# Altium footprint library NRF21540-QDAA-R.PcbLib: 3 footprints
Each footprint in its own frame and in the unit in brackets; x right, y up, seen from the top. Pads: shape width x height; smd on the part's side, far side on the other; paste and mask are expansions set on the pad; w line width, h text height; cw(c..) or ccw(c..) is an arc to the next point about the centre after c.
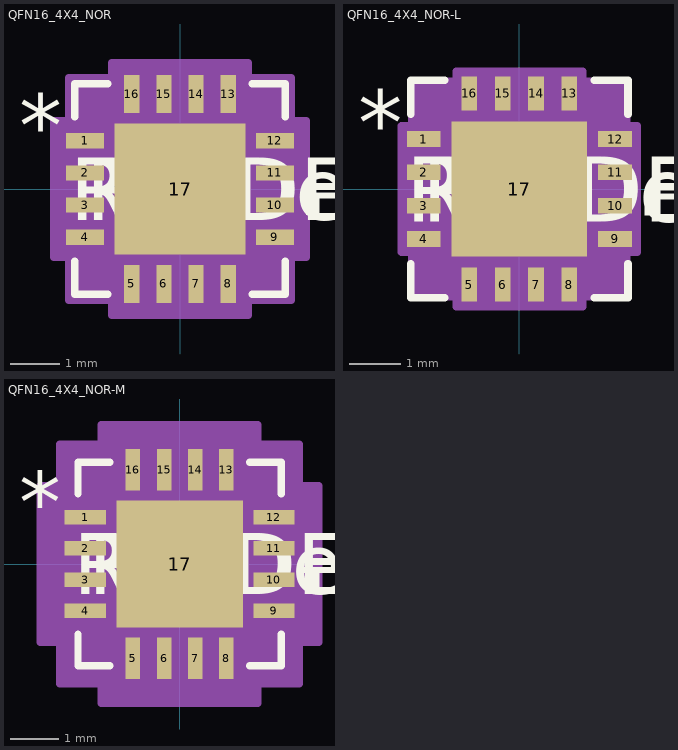
[diagram p0: the footprints below, top view; thin cyan lines are the x and y axes]

## QFN16_4X4_NOR [mil]
pads (17):
  rect 30x12 smd paste+0 mask+0: 1(-75.5,38.39) 2(-75.5,12.8) 3(-75.5,-12.8) 4(-75.5,-38.39) 9(75.5,-38.39) 10(75.5,-12.8) 11(75.5,12.8) 12(75.5,38.39)
  rect 12x30 smd paste+0 mask+0: 5(-38.39,-75.5) 6(-12.8,-75.5) 7(12.8,-75.5) 8(38.39,-75.5) 13(38.39,75.5) 14(12.8,75.5) 15(-12.8,75.5) 16(-38.39,75.5)
  rect 104x104 smd paste-52 mask+0: 17(0,0)
Top Overlay:
  region: 100.5,-5.3 110.5,-5.3 110.5,-20.3 100.5,-20.3
  lines w6: -83.5,-57.49 -83.5,-83.5 -57.49,-83.5 ; -83.5,57.49 -83.5,83.5 -57.49,83.5 ; 57.49,-83.5 83.5,-83.5 83.5,-57.49 ; 57.49,83.5 83.5,83.5 83.5,57.49
  text "*" at -128,26.18 h50
  text "RefDes" at -75,-25 h50
  text "REFDES" at -87.5,-25 h50
Top Paste:
  region: -3.94,48.06 -48.06,48.06 -48.06,3.94 -3.94,3.94
  region: -3.94,-3.94 -48.06,-3.94 -48.06,-48.06 -3.94,-48.06
  region: 48.06,48.06 3.94,48.06 3.94,3.94 48.06,3.94
  region: 48.06,-3.94 3.94,-3.94 3.94,-48.06 48.06,-48.06
Mechanical 13:
  lines w1: -78.5,28.5 -28.5,78.5 ; -78.5,-78.5 78.5,-78.5 ; -78.5,-78.5 -78.5,78.5 ; -78.5,-78.5 -78.5,-78.5 ; -78.5,-45.39 -78.5,-31.39 ; -78.5,-45.39 -78.5,-31.39 ; -78.5,-45.39 -78.5,-45.39 ; -78.5,-31.39 -78.5,-31.39 ; -78.5,-19.8 -78.5,-5.8 ; -78.5,-19.8 -78.5,-5.8 ; -78.5,-19.8 -78.5,-19.8 ; -78.5,-5.8 -78.5,-5.8 ; -78.5,5.8 -78.5,19.8 ; -78.5,5.8 -78.5,19.8 ; -78.5,5.8 -78.5,5.8 ; -78.5,19.8 -78.5,19.8 ; -78.5,31.39 -78.5,45.39 ; -78.5,31.39 -78.5,45.39 ; -78.5,31.39 -78.5,31.39 ; -78.5,45.39 -78.5,45.39 ; -78.5,78.5 78.5,78.5 ; -78.5,78.5 -78.5,78.5 ; -45.39,-78.5 -31.39,-78.5 ; -45.39,-78.5 -45.39,-78.5 ; -45.39,-78.5 -31.39,-78.5 ; -45.39,78.5 -31.39,78.5 ; -45.39,78.5 -31.39,78.5 ; -45.39,78.5 -45.39,78.5 ; -31.39,-78.5 -31.39,-78.5 ; -31.39,78.5 -31.39,78.5 ; -19.8,-78.5 -5.8,-78.5 ; -19.8,-78.5 -19.8,-78.5 ; -19.8,-78.5 -5.8,-78.5 ; -19.8,78.5 -5.8,78.5 ; -19.8,78.5 -5.8,78.5 ; -19.8,78.5 -19.8,78.5 ; -5.8,-78.5 -5.8,-78.5 ; -5.8,78.5 -5.8,78.5 ; 5.8,-78.5 19.8,-78.5 ; 5.8,-78.5 5.8,-78.5 ; 5.8,-78.5 19.8,-78.5 ; 5.8,78.5 19.8,78.5 ; 5.8,78.5 19.8,78.5 ; 5.8,78.5 5.8,78.5 ; 19.8,-78.5 19.8,-78.5 ; 19.8,78.5 19.8,78.5 ; 31.39,-78.5 45.39,-78.5 ; 31.39,-78.5 31.39,-78.5 ; 31.39,-78.5 45.39,-78.5 ; 31.39,78.5 45.39,78.5 ; 31.39,78.5 45.39,78.5 ; 31.39,78.5 31.39,78.5 ; 45.39,-78.5 45.39,-78.5 ; 45.39,78.5 45.39,78.5 ; 78.5,-78.5 78.5,-78.5 ; 78.5,-78.5 78.5,78.5 ; 78.5,-45.39 78.5,-31.39 ; 78.5,-45.39 78.5,-45.39 ; 78.5,-45.39 78.5,-31.39 ; 78.5,-31.39 78.5,-31.39 ; 78.5,-19.8 78.5,-5.8 ; 78.5,-19.8 78.5,-19.8 ; 78.5,-19.8 78.5,-5.8 ; 78.5,-5.8 78.5,-5.8 ; 78.5,5.8 78.5,19.8 ; 78.5,5.8 78.5,5.8 ; 78.5,5.8 78.5,19.8 ; 78.5,19.8 78.5,19.8 ; 78.5,31.39 78.5,45.39 ; 78.5,31.39 78.5,31.39 ; 78.5,31.39 78.5,45.39 ; 78.5,45.39 78.5,45.39 ; 78.5,78.5 78.5,78.5
  text "*" at -73,26.18 h50
  text "RefDes2" at -87.5,-25 h50
Mechanical 15:
  region: -54.39,-88.5 -88.5,-88.5 -88.5,-54.39 -100.5,-54.39 -100.5,54.39 -88.5,54.39 -88.5,88.5 -54.39,88.5 -54.39,100.5 54.39,100.5 54.39,88.5 88.5,88.5 88.5,54.39 100.5,54.39 100.5,-54.39 88.5,-54.39 88.5,-88.5 54.39,-88.5 54.39,-100.5 -54.39,-100.5
  lines w6: -100.5,-54.39 -88.5,-54.39 -88.5,-88.5 -54.39,-88.5 -54.39,-100.5 54.39,-100.5 54.39,-88.5 88.5,-88.5 88.5,-54.39 100.5,-54.39 100.5,54.39 88.5,54.39 88.5,88.5 54.39,88.5 54.39,100.5 -54.39,100.5 -54.39,88.5 -88.5,88.5 -88.5,54.39 -100.5,54.39 -100.5,-54.39
3D body "QFN16_4X4_NOR.step": height 35.12, standoff 0, extent -78.5,-78.5 78.5,78.5

## QFN16_4X4_NOR-L [mil]
pads (17):
  rect 26x12 smd paste+0 mask+0: 1(-73.5,38.39) 2(-73.5,12.8) 3(-73.5,-12.8) 4(-73.5,-38.39) 9(73.5,-38.39) 10(73.5,-12.8) 11(73.5,12.8) 12(73.5,38.39)
  rect 12x26 smd paste+0 mask+0: 5(-38.39,-73.5) 6(-12.8,-73.5) 7(12.8,-73.5) 8(38.39,-73.5) 13(38.39,73.5) 14(12.8,73.5) 15(-12.8,73.5) 16(-38.39,73.5)
  rect 104x104 smd paste-52 mask+0: 17(0,0)
Top Overlay:
  region: 96.5,-5.3 106.5,-5.3 106.5,-20.3 96.5,-20.3
  lines w6: -83.5,-57.49 -83.5,-83.5 -57.49,-83.5 ; -83.5,57.49 -83.5,83.5 -57.49,83.5 ; 57.49,-83.5 83.5,-83.5 83.5,-57.49 ; 57.49,83.5 83.5,83.5 83.5,57.49
  text "*" at -124,26.18 h50
  text "RefDes" at -75,-25 h50
  text "REFDES" at -87.5,-25 h50
Top Paste:
  region: -3.94,48.06 -48.06,48.06 -48.06,3.94 -3.94,3.94
  region: -3.94,-3.94 -48.06,-3.94 -48.06,-48.06 -3.94,-48.06
  region: 48.06,48.06 3.94,48.06 3.94,3.94 48.06,3.94
  region: 48.06,-3.94 3.94,-3.94 3.94,-48.06 48.06,-48.06
Mechanical 13:
  lines w1: -78.5,28.5 -28.5,78.5 ; -78.5,-78.5 78.5,-78.5 ; -78.5,-78.5 -78.5,78.5 ; -78.5,-78.5 -78.5,-78.5 ; -78.5,-45.39 -78.5,-31.39 ; -78.5,-45.39 -78.5,-31.39 ; -78.5,-45.39 -78.5,-45.39 ; -78.5,-31.39 -78.5,-31.39 ; -78.5,-19.8 -78.5,-5.8 ; -78.5,-19.8 -78.5,-5.8 ; -78.5,-19.8 -78.5,-19.8 ; -78.5,-5.8 -78.5,-5.8 ; -78.5,5.8 -78.5,19.8 ; -78.5,5.8 -78.5,19.8 ; -78.5,5.8 -78.5,5.8 ; -78.5,19.8 -78.5,19.8 ; -78.5,31.39 -78.5,45.39 ; -78.5,31.39 -78.5,45.39 ; -78.5,31.39 -78.5,31.39 ; -78.5,45.39 -78.5,45.39 ; -78.5,78.5 78.5,78.5 ; -78.5,78.5 -78.5,78.5 ; -45.39,-78.5 -31.39,-78.5 ; -45.39,-78.5 -45.39,-78.5 ; -45.39,-78.5 -31.39,-78.5 ; -45.39,78.5 -31.39,78.5 ; -45.39,78.5 -31.39,78.5 ; -45.39,78.5 -45.39,78.5 ; -31.39,-78.5 -31.39,-78.5 ; -31.39,78.5 -31.39,78.5 ; -19.8,-78.5 -5.8,-78.5 ; -19.8,-78.5 -19.8,-78.5 ; -19.8,-78.5 -5.8,-78.5 ; -19.8,78.5 -5.8,78.5 ; -19.8,78.5 -5.8,78.5 ; -19.8,78.5 -19.8,78.5 ; -5.8,-78.5 -5.8,-78.5 ; -5.8,78.5 -5.8,78.5 ; 5.8,-78.5 19.8,-78.5 ; 5.8,-78.5 5.8,-78.5 ; 5.8,-78.5 19.8,-78.5 ; 5.8,78.5 19.8,78.5 ; 5.8,78.5 19.8,78.5 ; 5.8,78.5 5.8,78.5 ; 19.8,-78.5 19.8,-78.5 ; 19.8,78.5 19.8,78.5 ; 31.39,-78.5 45.39,-78.5 ; 31.39,-78.5 31.39,-78.5 ; 31.39,-78.5 45.39,-78.5 ; 31.39,78.5 45.39,78.5 ; 31.39,78.5 45.39,78.5 ; 31.39,78.5 31.39,78.5 ; 45.39,-78.5 45.39,-78.5 ; 45.39,78.5 45.39,78.5 ; 78.5,-78.5 78.5,-78.5 ; 78.5,-78.5 78.5,78.5 ; 78.5,-45.39 78.5,-31.39 ; 78.5,-45.39 78.5,-45.39 ; 78.5,-45.39 78.5,-31.39 ; 78.5,-31.39 78.5,-31.39 ; 78.5,-19.8 78.5,-5.8 ; 78.5,-19.8 78.5,-19.8 ; 78.5,-19.8 78.5,-5.8 ; 78.5,-5.8 78.5,-5.8 ; 78.5,5.8 78.5,19.8 ; 78.5,5.8 78.5,5.8 ; 78.5,5.8 78.5,19.8 ; 78.5,19.8 78.5,19.8 ; 78.5,31.39 78.5,45.39 ; 78.5,31.39 78.5,31.39 ; 78.5,31.39 78.5,45.39 ; 78.5,45.39 78.5,45.39 ; 78.5,78.5 78.5,78.5
  text "*" at -73,26.18 h50
  text "RefDes2" at -87.5,-25 h50
Mechanical 15:
  region: -48.39,-82.5 -82.5,-82.5 -82.5,-48.39 -90.5,-48.39 -90.5,48.39 -82.5,48.39 -82.5,82.5 -48.39,82.5 -48.39,90.5 48.39,90.5 48.39,82.5 82.5,82.5 82.5,48.39 90.5,48.39 90.5,-48.39 82.5,-48.39 82.5,-82.5 48.39,-82.5 48.39,-90.5 -48.39,-90.5
  lines w6: -90.5,-48.39 -82.5,-48.39 -82.5,-82.5 -48.39,-82.5 -48.39,-90.5 48.39,-90.5 48.39,-82.5 82.5,-82.5 82.5,-48.39 90.5,-48.39 90.5,48.39 82.5,48.39 82.5,82.5 48.39,82.5 48.39,90.5 -48.39,90.5 -48.39,82.5 -82.5,82.5 -82.5,48.39 -90.5,48.39 -90.5,-48.39
3D body "QFN16_4X4_NOR.step": height 35.12, standoff 0, extent -78.5,-78.5 78.5,78.5

## QFN16_4X4_NOR-M [mil]
pads (17):
  rect 34x12 smd paste+0 mask+0: 1(-77.5,38.39) 2(-77.5,12.8) 3(-77.5,-12.8) 4(-77.5,-38.39) 9(77.5,-38.39) 10(77.5,-12.8) 11(77.5,12.8) 12(77.5,38.39)
  rect 12x34 smd paste+0 mask+0: 5(-38.39,-77.5) 6(-12.8,-77.5) 7(12.8,-77.5) 8(38.39,-77.5) 13(38.39,77.5) 14(12.8,77.5) 15(-12.8,77.5) 16(-38.39,77.5)
  rect 104x104 smd paste-52 mask+0: 17(0,0)
Top Overlay:
  region: 104.5,-5.3 114.5,-5.3 114.5,-20.3 104.5,-20.3
  lines w6: -83.5,-57.49 -83.5,-83.5 -57.49,-83.5 ; -83.5,57.49 -83.5,83.5 -57.49,83.5 ; 57.49,-83.5 83.5,-83.5 83.5,-57.49 ; 57.49,83.5 83.5,83.5 83.5,57.49
  text "*" at -132,26.18 h50
  text "RefDes" at -75,-25 h50
  text "REFDES" at -87.5,-25 h50
Top Paste:
  region: -3.94,48.06 -48.06,48.06 -48.06,3.94 -3.94,3.94
  region: -3.94,-3.94 -48.06,-3.94 -48.06,-48.06 -3.94,-48.06
  region: 48.06,48.06 3.94,48.06 3.94,3.94 48.06,3.94
  region: 48.06,-3.94 3.94,-3.94 3.94,-48.06 48.06,-48.06
Mechanical 13:
  lines w1: -78.5,28.5 -28.5,78.5 ; -78.5,-78.5 78.5,-78.5 ; -78.5,-78.5 -78.5,78.5 ; -78.5,-78.5 -78.5,-78.5 ; -78.5,-45.39 -78.5,-31.39 ; -78.5,-45.39 -78.5,-31.39 ; -78.5,-45.39 -78.5,-45.39 ; -78.5,-31.39 -78.5,-31.39 ; -78.5,-19.8 -78.5,-5.8 ; -78.5,-19.8 -78.5,-5.8 ; -78.5,-19.8 -78.5,-19.8 ; -78.5,-5.8 -78.5,-5.8 ; -78.5,5.8 -78.5,19.8 ; -78.5,5.8 -78.5,19.8 ; -78.5,5.8 -78.5,5.8 ; -78.5,19.8 -78.5,19.8 ; -78.5,31.39 -78.5,45.39 ; -78.5,31.39 -78.5,45.39 ; -78.5,31.39 -78.5,31.39 ; -78.5,45.39 -78.5,45.39 ; -78.5,78.5 78.5,78.5 ; -78.5,78.5 -78.5,78.5 ; -45.39,-78.5 -31.39,-78.5 ; -45.39,-78.5 -45.39,-78.5 ; -45.39,-78.5 -31.39,-78.5 ; -45.39,78.5 -31.39,78.5 ; -45.39,78.5 -31.39,78.5 ; -45.39,78.5 -45.39,78.5 ; -31.39,-78.5 -31.39,-78.5 ; -31.39,78.5 -31.39,78.5 ; -19.8,-78.5 -5.8,-78.5 ; -19.8,-78.5 -19.8,-78.5 ; -19.8,-78.5 -5.8,-78.5 ; -19.8,78.5 -5.8,78.5 ; -19.8,78.5 -5.8,78.5 ; -19.8,78.5 -19.8,78.5 ; -5.8,-78.5 -5.8,-78.5 ; -5.8,78.5 -5.8,78.5 ; 5.8,-78.5 19.8,-78.5 ; 5.8,-78.5 5.8,-78.5 ; 5.8,-78.5 19.8,-78.5 ; 5.8,78.5 19.8,78.5 ; 5.8,78.5 19.8,78.5 ; 5.8,78.5 5.8,78.5 ; 19.8,-78.5 19.8,-78.5 ; 19.8,78.5 19.8,78.5 ; 31.39,-78.5 45.39,-78.5 ; 31.39,-78.5 31.39,-78.5 ; 31.39,-78.5 45.39,-78.5 ; 31.39,78.5 45.39,78.5 ; 31.39,78.5 45.39,78.5 ; 31.39,78.5 31.39,78.5 ; 45.39,-78.5 45.39,-78.5 ; 45.39,78.5 45.39,78.5 ; 78.5,-78.5 78.5,-78.5 ; 78.5,-78.5 78.5,78.5 ; 78.5,-45.39 78.5,-31.39 ; 78.5,-45.39 78.5,-45.39 ; 78.5,-45.39 78.5,-31.39 ; 78.5,-31.39 78.5,-31.39 ; 78.5,-19.8 78.5,-5.8 ; 78.5,-19.8 78.5,-19.8 ; 78.5,-19.8 78.5,-5.8 ; 78.5,-5.8 78.5,-5.8 ; 78.5,5.8 78.5,19.8 ; 78.5,5.8 78.5,5.8 ; 78.5,5.8 78.5,19.8 ; 78.5,19.8 78.5,19.8 ; 78.5,31.39 78.5,45.39 ; 78.5,31.39 78.5,31.39 ; 78.5,31.39 78.5,45.39 ; 78.5,45.39 78.5,45.39 ; 78.5,78.5 78.5,78.5
  text "*" at -73,26.18 h50
  text "RefDes2" at -87.5,-25 h50
Mechanical 15:
  region: -64.39,-98.5 -98.5,-98.5 -98.5,-64.39 -114.5,-64.39 -114.5,64.39 -98.5,64.39 -98.5,98.5 -64.39,98.5 -64.39,114.5 64.39,114.5 64.39,98.5 98.5,98.5 98.5,64.39 114.5,64.39 114.5,-64.39 98.5,-64.39 98.5,-98.5 64.39,-98.5 64.39,-114.5 -64.39,-114.5
  lines w6: -114.5,-64.39 -98.5,-64.39 -98.5,-98.5 -64.39,-98.5 -64.39,-114.5 64.39,-114.5 64.39,-98.5 98.5,-98.5 98.5,-64.39 114.5,-64.39 114.5,64.39 98.5,64.39 98.5,98.5 64.39,98.5 64.39,114.5 -64.39,114.5 -64.39,98.5 -98.5,98.5 -98.5,64.39 -114.5,64.39 -114.5,-64.39
3D body "QFN16_4X4_NOR.step": height 35.12, standoff 0, extent -78.5,-78.5 78.5,78.5